# EAGLE library part AD817 (library den)
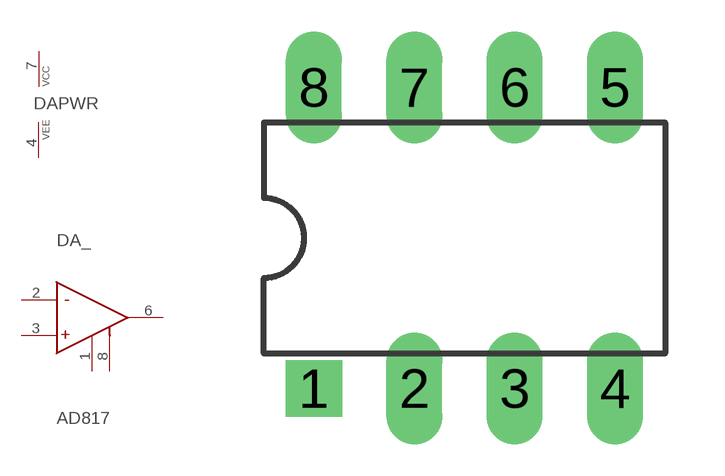
[diagram p23: symbol with the pads of DIL08; footprint DIL08]

Designator prefix DA; gates PWR=VCC-VEE _=OPAMP1

## AD817  [DIL08]
1  _:NULL1  in
2  _:-IN  in
3  _:+IN  in
4  PWR:VEE  pwr
6  _:OUT  in
7  PWR:VCC  pwr
8  _:NULL2  in

## Footprint DIL08 (pad centres in mm)
Dual In Line Package
drill 0.8 pad 1.422 square: 1 -3.81,-3.81
drill 0.8 pad 1.422 long: 2 -1.27,-3.81; 3 1.27,-3.81; 4 3.81,-3.81; 5 3.81,3.81; 6 1.27,3.81; 7 -1.27,3.81; 8 -3.81,3.81